# Altium schematic symbol library SBRT5A50SAF-13.SchLib: 1 symbol
Pins are listed as number, name and electrical type; pins without a type are passive.

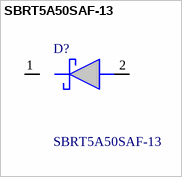
[diagram p0: symbol SBRT5A50SAF-13]

## SBRT5A50SAF-13
designator D?
Schottky Diodes & Rectifiers 5A TrenchSBR 50Vrrm 5A Io 0.53Vf 150uA; Manufacturer_Name: Diodes Incorporated; Geometry.Height: 1.1mm; Mouser Part Number: 621-SBRT5A50SAF-13; Mouser Price/Stock: https://www.mouser.co.uk/ProductDetail/Diodes-Incorporated/SBRT5A50SAF-13?qs=dOK1vf2izjuESHm4JAgALw%3D%3D; Manufacturer_Part_Number: SBRT5A50SAF-13; Datasheet Link: https://www.diodes.com/assets/Datasheets/SBRT5A50SAF.pdf
footprint SODFL5226X110N
pins: 1 K, 2 A